# Altium schematic symbol library Jason_SCH Library.SchLib: 27 symbols
Pins are listed as number, name and electrical type; pins without a type are passive.

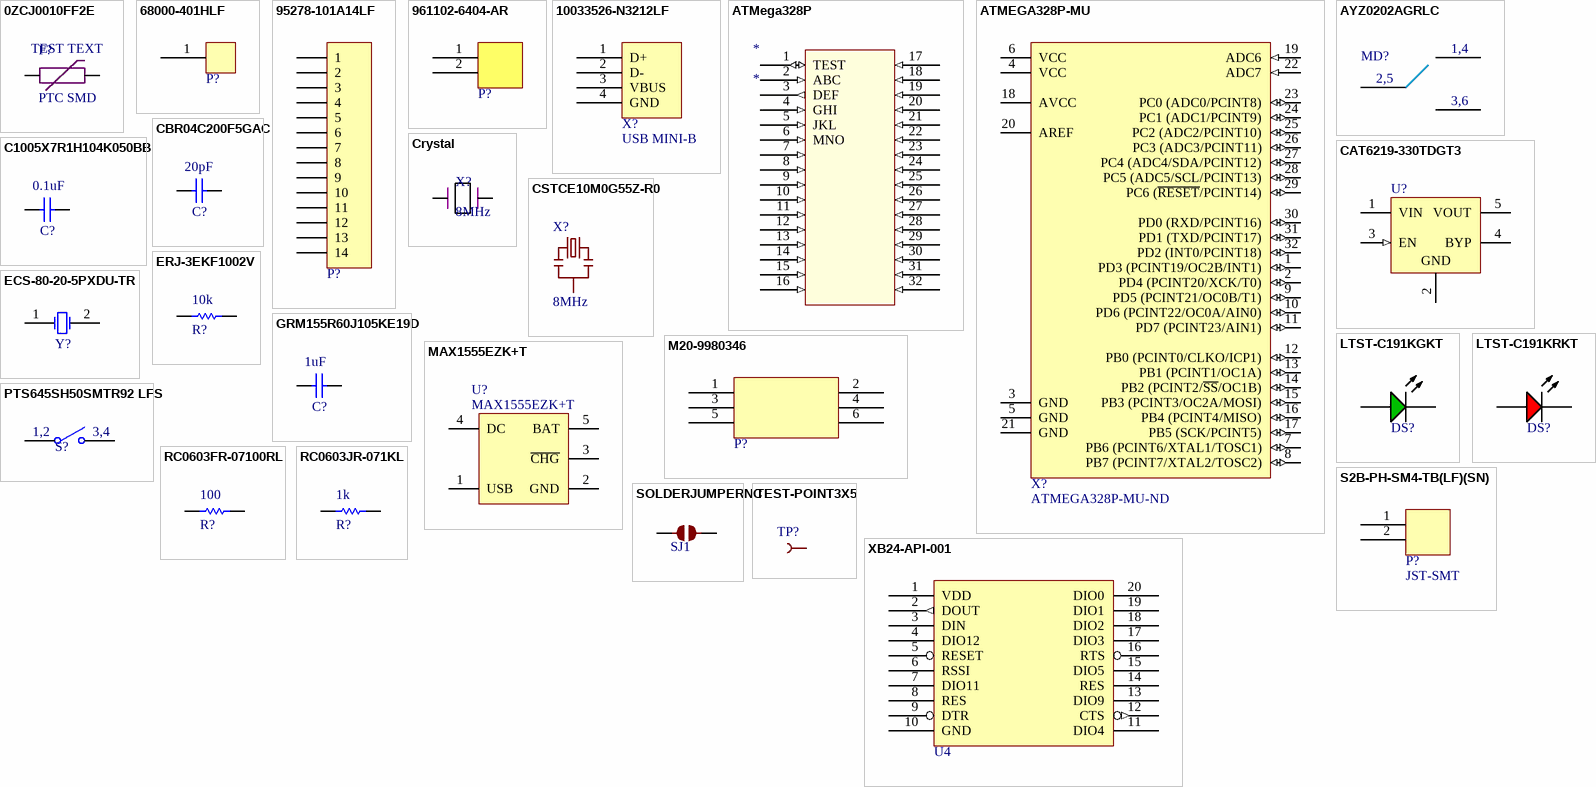
[diagram p0: symbols 0ZCJ0010FF2E to XB24-API-001]

## 0ZCJ0010FF2E
designator F?, comment PTC SMD
PTC RESTTBLE 0.10A 60V CHIP 1206; Manufacturer: Bel Fuse Inc.; Manufacturer Part Number: 0ZCJ0010FF2E; Current - Max: 10A; Current - Hold (Ih) (Max): 100mA; Current - Trip (It): 250mA; R Min/Max: 1.600 ~ 15.00 Ohm; Time to Trip: 1s; Supplier 1: Digi-Key; Supplier Part Number 1: 507-1794-1-ND; RoHS: RoHS Compliant; Category: Circuit Protection; Stock 1: 174384; Pricing 1: 1=0.17, 10=0.15, 25=0.1388, 100=0.1246, 250=0.11104, 500=0.0925, 1000=0.08766 (CAD); Packaging: Cut Tape (CT); Voltage - Max: 60V; Package / Case: 1206 (3216 Metric), Concave; ComponentLink1URL: http://www.belfuse.com/pdfs/0ZCJ.pdf; ComponentLink1Description: http://www.belfuse.com/pdfs/0ZCJ.pdf
footprint PTC-1206
pins: 1, 2
text: TEST TEXT

## 68000-401HLF
designator P?  (value not drawn)
BERGSTIK II .100" SR STRAIGHT HEADER; Manufacturer: FCI; Manufacturer Part Number: 68000-401HLF; Connector Type: Header, Unshrouded; Number of Positions: 1; Number of Positions Loaded: All; Supplier 1: Digi-Key; Supplier Part Number 1: 609-3466-ND; RoHS: RoHS Compliant; Category: Connectors, Interconnects; Stock 1: 11541; Pricing 1: 1=0.14, 10=0.126, 25=0.094, 50=0.0806, 100=0.0779, 250=0.06712, 500=0.06444, 1000=0.05638, 2500=0.05101 (CAD); Packaging: Bulk; Contact Type: Male Pin; Pitch: -; Number of Rows: 1; Row Spacing: -; Contact Mating Length: 0.230" (5.84mm); Mounting Type: Through Hole; Termination: Solder; Fastening Type: -; Features: -; Contact Finish: Tin; Contact Finish Thickness: 100µin (2.54µm); Color: Black; ComponentLink1URL: http://portal.fciconnect.com/Comergent//fci/drawing/68000.pdf; ComponentLink1Description: http://portal.fciconnect.com/Comergent//fci/drawing/68000.pdf
footprint 1X01
pins: 1

## 95278-101A14LF
designator P?
BERGSTIK Header 14POS .100" DR SMT; Manufacturer: FCI; Manufacturer Part Number: 95278-101A14LF; Connector Type: Header, Unshrouded; Number of Positions: 14; Number of Positions Loaded: All; Pitch: 0.100" (2.54mm); Supplier 1: Digi-Key; Supplier Part Number 1: 609-3485-1-ND; RoHS: RoHS Compliant; Category: Connectors, Interconnects; Stock 1: 3673; Pricing 1: 1=1.9, 10=1.677, 25=1.5772, 50=1.5116, 100=1.446 (CAD); Packaging: Cut Tape (CT); Contact Type: Male Pin; Number of Rows: 2; Row Spacing: 0.100" (2.54mm); Contact Mating Length: 0.232" (5.90mm); Mounting Type: Surface Mount; Termination: Solder; Fastening Type: -; Features: -; Contact Finish: Gold, GXT™; Contact Finish Thickness: 30µin (0.76µm); Color: Black; ComponentLink1URL: http://portal.fciconnect.com/Comergent//fci/drawing/95278.pdf; ComponentLink1Description: http://portal.fciconnect.com/Comergent//fci/drawing/95278.pdf
footprint 1X14
pins: 1, 2, 3, 4, 5, 6, 7, 8, 9, 10, 11, 12, 13, 14

## 961102-6404-AR
designator P?  (value not drawn)
CONN HEADER VERT SGL 2POS GOLD; Manufacturer: 3M; Manufacturer Part Number: 961102-6404-AR; Connector Type: Header, Unshrouded; Number of Positions: 2; Number of Positions Loaded: All; Pitch: 0.100" (2.54mm); Supplier 1: Digi-Key; Supplier Part Number 1: 3M9447-ND; RoHS: RoHS Compliant; Category: Connectors, Interconnects; Stock 1: 16484; Pricing 1: 1=0.22, 10=0.21, 25=0.1788, 50=0.1566, 100=0.1454, 250=0.12864, 500=0.12304, 1000=0.10068, 2500=0.09229 (CAD); Packaging: Bulk; Contact Type: Male Pin; Number of Rows: 1; Row Spacing: -; Contact Mating Length: 0.217" (5.50mm); Mounting Type: Through Hole; Termination: Solder; Fastening Type: -; Features: -; Contact Finish: Gold; Contact Finish Thickness: Flash; Color: Black; ComponentLink1URL: http://multimedia.3m.com/mws/mediawebserver?66666UuZjcFSLXTtNxTElX&VEVuQEcuZgVs6EVs6E666666--; ComponentLink1Description: http://multimedia.3m.com/mws/mediawebserver?66666UuZjcFSLXTtNxTElX&VEVuQEcuZgVs6EVs6E666666--
footprint 1X02
pins: 1, 2

## 10033526-N3212LF
designator X?, comment USB MINI-B
CONN MINI USB RCPT RA TYPE B SMD; Manufacturer: FCI; Manufacturer Part Number: 10033526-N3212LF; Connector Type: USB - mini B; Number of Contacts: 5; Gender: Receptacle; Supplier 1: Digi-Key; Supplier Part Number 1: 609-4700-1-ND; RoHS: RoHS Compliant; Category: Connectors, Interconnects; Stock 1: 15539; Pricing 1: 1=0.99, 10=0.928, 25=0.836, 50=0.743, 100=0.7121, 250=0.6502 (CAD); Packaging: Cut Tape (CT); Specifications: -; Mounting Type: Surface Mount, Right Angle, Horizontal; Features: Board Guide, Solder Retention; Ingress Protection: -; ComponentLink1URL: http://portal.fciconnect.com/Comergent//fci/drawing/10033526.pdf; ComponentLink1Description: http://portal.fciconnect.com/Comergent//fci/drawing/10033526.pdf
footprint USB-MINIB
pins: 1 D+, 2 D-, 3 VBUS, 4 GND

## ATMega328P
designator *
footprint TQFP80P900X900X120_HS-33N (TQFP, 32-Leads, Body 7.00x7.00mm, Pitch 0.80mm, Thermal Pad 0.00x0.00mm, IPC Medium Density)
pins: 1 TEST (io), 2 ABC (in), 3 DEF (out), 4 GHI (in), 5 JKL (in), 6 MNO (in), 7 (in), 8 (in), 9 (in), 10 (in), 11 (in), 12 (in), 13 (in), 14 (in), 15 (in), 16 (in), 17 (in), 18 (in), 19 (in), 20 (in), 21 (in), 22 (in), 23 (in), 24 (in), 25 (in), 26 (in), 27 (in), 28 (in), 29 (in), 30 (in), 31 (in), 32 (in)

## ATMEGA328P-MU
designator X?  Supplier Part Number 1: ATMEGA328P-MU-ND
IC MCU 8BIT 32KB FLASH 32QFN; Manufacturer: Atmel; Manufacturer Part Number: ATMEGA328P-MU; Core Processor: AVR; Core Size: 8-Bit; Speed: 20MHz; Connectivity: I²C, SPI, UART/USART; Peripherals: Brown-out Detect/Reset, POR, PWM, WDT; Number of I/O: 23; Program Memory Size: 32KB (16K x 16); EEPROM Size: 1K x 8; RAM Size: 2K x 8; Voltage - Supply (Vcc/Vdd): 1.8 V ~ 5.5 V; Data Converters: A/D 8x10b; Oscillator Type: Internal; Supplier 1: Digi-Key; RoHS: RoHS Compliant; Category: Integrated Circuits (ICs); Stock 1: 70195; Pricing 1: 1=5.01, 10=4.465, 100=3.6608, 250=3.30364, 500=2.96432, 1000=2.50003 (CAD); Packaging: Tray; Program Memory Type: FLASH; Operating Temperature: -40°C ~ 85°C; Package / Case: 32-VFQFN Exposed Pad; Supplier Device Package: 32-VQFN (5x5); ComponentLink1URL: http://www.atmel.com/images/atmel-8271-8-bit-avr-microcontroller-atmega48a-48pa-88a-88pa-168a-168pa-328-328p_datasheet_summary.pdf; ComponentLink1Description: http://www.atmel.com/images/atmel-8271-8-bit-avr-microcontroller-atmega48a-48pa-88a-88pa-168a-168pa-328-328p_datasheet_summary.pdf
footprint 32A_N (Thin QFP, 32-Leads, Body 7x7mm, Pitch 0.8mm, IPC Medium Density)
pins: 1 PD3 (PCINT19/OC2B/INT1) (io), 2 PD4 (PCINT20/XCK/T0) (io), 3 GND (power), 4 VCC (power), 5 GND (power), 6 VCC (power), 7 PB6 (PCINT6/XTAL1/TOSC1) (io), 8 PB7 (PCINT7/XTAL2/TOSC2) (io), 9 PD5 (PCINT21/OC0B/T1) (io), 10 PD6 (PCINT22/OC0A/AIN0) (io), 11 PD7 (PCINT23/AIN1) (io), 12 PB0 (PCINT0/CLKO/ICP1) (io), 13 PB1 (PCINT1/OC1A) (io), 14 PB2 (PCINT2/~{SS}/OC1B) (io), 15 PB3 (PCINT3/OC2A/MOSI) (io), 16 PB4 (PCINT4/MISO) (io), 17 PB5 (SCK/PCINT5) (io), 18 AVCC (power), 19 ADC6 (in), 20 AREF, 21 GND (power), 22 ADC7 (in), 23 PC0 (ADC0/PCINT8) (io), 24 PC1 (ADC1/PCINT9) (io), 25 PC2 (ADC2/PCINT10) (io), 26 PC3 (ADC3/PCINT11) (io), 27 PC4 (ADC4/SDA/PCINT12) (io), 28 PC5 (ADC5/SCL/PCINT13) (io), 29 PC6 (~{RESET}/PCINT14) (io), 30 PD0 (RXD/PCINT16) (io), 31 PD1 (TXD/PCINT17) (io), 32 PD2 (INT0/PCINT18) (io)

## AYZ0202AGRLC
designator MD?
SWITCH SLIDE DPDT 100MA 12V; Manufacturer: C&K Components; Manufacturer Part Number: AYZ0202AGRLC; Contact Timing: Not Specified; Switch Function: On-On; Current Rating: 100mA (DC); Actuator Type: Standard; Actuator Length: 1.00mm; Actuator Material: Polyamide (PA46), Nylon 4/6, Glass Filled; Mechanical Life: 10,000 Cycles; Supplier 1: Digi-Key; Supplier Part Number 1: 401-2013-1-ND; RoHS: RoHS Compliant; Category: Switches; Stock 1: 23014; Pricing 1: 1=1.86, 10=1.779, 25=1.7424, 50=1.5568, 100=1.4827, 250=1.44564, 500=1.22326, 1000=1.18619 (CAD); Packaging: Cut Tape (CT); Circuit: DPDT; Voltage Rating - AC: -; Voltage Rating - DC: 12V; Contact Material: Copper Alloy; Contact Finish: Silver; Mounting Type: Surface Mount; Termination Style: Gull Wing; Features: -; Switch Travel: -; Operating Temperature: -10°C ~ 60°C; Electrical Life: -; Operating Force: -; ComponentLink1URL: http://www.ck-components.com/index.php?module=media&action=Display&cmpref=14395&lang=en&width=&height=&format=&alt=; ComponentLink1Description: http://www.ck-components.com/index.php?module=media&action=Display&cmpref=14395&lang=en&width=&height=&format=&alt=
footprint DPDT SMD
pins: 1, 2, 3, 4, 5, 6
text: 1,4; 2,5; 3,6

## C1005X7R1H104K050BB
designator C?  value 0.1uF
CAP CER 0.1UF 50V 10% X7R 0402; Manufacturer: TDK Corporation; Manufacturer Part Number: C1005X7R1H104K050BB; Capacitance: 0.1µF; Supplier 1: Digi-Key; RoHS: RoHS Compliant; Category: Capacitors; Stock 1: 7100869; Pricing 1: 1=0.21, 10=0.14, 100=0.0664, 250=0.05592, 500=0.04684, 1000=0.03845, 5000=0.03251 (CAD); Packaging: Cut Tape (CT); Tolerance: ±10%; Voltage - Rated: 50V; Temperature Coefficient: X7R; Mounting Type: Surface Mount, MLCC; Operating Temperature: -55°C ~ 125°C; Applications: General Purpose; Ratings: -; Package / Case: 0402 (1005 Metric); Size / Dimension: 0.039" L x 0.020" W (1.00mm x 0.50mm); Height - Seated (Max): -; Thickness (Max): 0.022" (0.55mm); Lead Spacing: -; Features: -; Lead Style: -; ComponentLink1URL: http://product.tdk.com/en/catalog/datasheets/mlcc_commercial_general_en.pdf; ComponentLink1Description: http://product.tdk.com/en/catalog/datasheets/mlcc_commercial_general_en.pdf; Supplier Part Number 1: 445-5932-1-ND
footprint 0402 (Chip Capacitor, Body 1.0x0.5mm, IPC High Density)
pins: 1, 2

## CAT6219-330TDGT3
designator U?  (value not drawn)
IC REG LDO 3.3V 0.5A TSOT23-5; Manufacturer: ON Semiconductor; Regulator Topology: Positive Fixed; Current - Output: 500mA; Voltage - Dropout (Typical): 0.3V @ 500mA; Number of Regulators: 1; Voltage - Input: Up to 5.5V; Supplier 1: Digi-Key; Supplier Part Number 1: CAT6219-330TDGT3CT-ND; Manufacturer Part Number: CAT6219-330TDGT3; RoHS: RoHS Compliant; Category: Integrated Circuits (ICs); Stock 1: 4724; Pricing 1: 1=1.36, 10=1.204, 25=1.0872, 100=0.9514, 250=0.83436, 500=0.73996, 1000=0.58518 (CAD); Packaging: Cut Tape (CT); Voltage - Output: 3.3V; Current - Limit (Min): -; Operating Temperature: -40°C ~ 125°C; Mounting Type: Surface Mount; Package / Case: SOT-23-5 Thin, TSOT-23-5; Supplier Device Package: TSOT-23-5; ComponentLink1URL: http://www.onsemi.com/pub_link/Collateral/CAT6219-D.PDF; ComponentLink1Description: http://www.onsemi.com/pub_link/Collateral/CAT6219-D.PDF
footprint SOT23-5 (SOT23, 5-Leads, Body 3x1.65mm, Pitch 0.95mm, IPC Medium Density)
pins: 1 VIN (power) "Supply voltage input.", 2 GND (power) "Ground reference.", 3 EN (in) "Enable input (active high); a 2.5 M pull-down  resistor is provided.", 4 BYP "Optional bypass capacitor connection for noise  reduction and PSRR enhancing.", 5 VOUT (power) "LDO Output Voltage."

## CBR04C200F5GAC
designator C?  value 20pF
CAP CER 20PF 50V 1% NP0 0402; Manufacturer: Kemet; Manufacturer Part Number: CBR04C200F5GAC; Temperature Coefficient: C0G, NP0; Supplier 1: Digi-Key; Supplier Part Number 1: 399-8786-1-ND; RoHS: RoHS Compliant; Category: Capacitors; Stock 1: 23000; Pricing 1: 1=0.43, 10=0.296, 50=0.1974, 100=0.1678, 250=0.13328, 500=0.11846, 1000=0.10365, 2500=0.09872, 5000=0.09132 (CAD); Packaging: Cut Tape (CT); Capacitance: 20pF; Tolerance: ±1%; Voltage - Rated: 50V; Mounting Type: Surface Mount, MLCC; Operating Temperature: -55°C ~ 125°C; Applications: RF, Microwave, High Frequency; Ratings: -; Package / Case: 0402 (1005 Metric); Size / Dimension: 0.039" L x 0.020" W (1.00mm x 0.50mm); Height - Seated (Max): -; Thickness (Max): 0.022" (0.55mm); Lead Spacing: -; Features: High Q, Low Loss; Lead Style: -; ComponentLink1URL: http://www.kemet.com/Lists/ProductCatalog/Attachments/490/KEM_C1030_CBR_SMD.pdf; ComponentLink1Description: http://www.kemet.com/Lists/ProductCatalog/Attachments/490/KEM_C1030_CBR_SMD.pdf
footprint 0402 (Chip Capacitor, Body 1.0x0.5mm, IPC High Density)
pins: 1, 2

## Crystal
designator X?, comment 8MHz
8MHz Crystal
footprint Crystal_SMD
pins: 1, 2

## CSTCE10M0G55Z-R0
designator X?, comment 8MHz
CER RESONATOR 10MHZ SMD; Manufacturer: Murata Electronics North America; Manufacturer Part Number: CSTCE10M0G55Z-R0; Frequency Stability: ±0.2%; Frequency Tolerance: ±0.5%; Capacitance: 33pF; Supplier 1: Digi-Key; Supplier Part Number 1: 490-4715-1-ND; RoHS: RoHS Compliant; Category: Crystals and Oscillators; Stock 1: 14995; Pricing 1: 1=0.69, 10=0.573, 50=0.5166, 100=0.4596, 500=0.43548, 1000=0.36763 (CAD); Packaging: Cut Tape (CT); Frequency: 10MHz; Type: Ceramic; Features: Built in Capacitor; Impedance: -; Operating Temperature: -40°C ~ 125°C; Mounting Type: Surface Mount; Package / Case: 3-SMD, Non-Standard; Size / Dimension: 0.126" L x 0.051" W (3.20mm x 1.30mm); Height: 0.031" (0.80mm); ComponentLink1URL: http://www.murata.com/~/media/webrenewal/support/library/catalog/products/timingdevice/ceralock/p16e.ashx; ComponentLink1Description: http://www.murata.com/~/media/webrenewal/support/library/catalog/products/timingdevice/ceralock/p16e.ashx
footprint RESONATOR-SMD
pins: 1, 2, 3

## ECS-80-20-5PXDU-TR
designator Y?  (value not drawn)
CRYSTAL 8.0000MHZ 20PF SMD; Manufacturer: ECS Inc.; Frequency: 8MHz; Frequency Stability: ±100ppm; Frequency Tolerance: ±30ppm; ESR (Equivalent Series Resistance): 60 Ohm; Operating Mode: Fundamental; Supplier 1: Digi-Key; Supplier Part Number 1: XC1526CT-ND; Manufacturer Part Number: ECS-80-20-5PXDU-TR; RoHS: RoHS Compliant; Category: Crystals and Oscillators; Stock 1: 14211; Pricing 1: 1=2.17, 10=1.888, 50=1.6552, 100=1.3066, 500=1.10334 (CAD); Packaging: Cut Tape (CT); Type: MHz Crystal; Load Capacitance: 20pF; Operating Temperature: -55°C ~ 125°C; Ratings: -; Mounting Type: Surface Mount; Package / Case: HC49/US; Size / Dimension: 0.449" L x 0.189" W (11.40mm x 4.80mm); Height: 0.169" (4.30mm); ComponentLink1URL: http://www.ecsxtal.com/store/pdf/CSM_7X_DU.pdf; ComponentLink1Description: http://www.ecsxtal.com/store/pdf/CSM_7X_DU.pdf
footprint ABRA-ABLS2-2_V (SMD, 2-Leads, Body 11.4x4.7mm, Height 3.3mm)
pins: 1 OSC1, 2 OSC2

## ERJ-3EKF1002V
designator R?  value 10k
RES SMD 10K OHM 1% 1/10W 0603; Manufacturer: Panasonic Electronic Components; Manufacturer Part Number: ERJ-3EKF1002V; Power (Watts): 0.1W, 1/10W; Temperature Coefficient: ±100ppm/°C; Supplier 1: Digi-Key; RoHS: RoHS Compliant; Category: Resistors; Stock 1: 5981773; Pricing 1: 1=0.15, 50=0.017, 100=0.0125, 250=0.0096, 500=0.00766, 1000=0.00564 (CAD); Packaging: Cut Tape (CT); Resistance (Ohms): 10k; Tolerance: ±1%; Composition: Thick Film; Features: Automotive AEC-Q200; Operating Temperature: -55°C ~ 155°C; Package / Case: 0603 (1608 Metric); Supplier Device Package: 0603; Size / Dimension: 0.063" L x 0.031" W (1.60mm x 0.80mm); Height: 0.022" (0.55mm); Number of Terminations: 2; ComponentLink1URL: http://industrial.panasonic.com/www-cgi/jvcr13pz.cgi?E+PZ+3+AOA0002+ERJ3EKF1002V+7+WW; ComponentLink1Description: http://industrial.panasonic.com/www-cgi/jvcr13pz.cgi?E+PZ+3+AOA0002+ERJ3EKF1002V+7+WW; Supplier Part Number 1: P10.0KHCT-ND
footprint J1-0603 (Chip Resistor, Body 1.6x0.8mm, IPC High Density)
pins: 1, 2

## GRM155R60J105KE19D
designator C?  value 1uF
CAP CER 1UF 6.3V 10% X5R 0402; Manufacturer: Murata Electronics North America; Manufacturer Part Number: GRM155R60J105KE19D; Capacitance: 1µF; Supplier 1: Digi-Key; Supplier Part Number 1: 490-1320-1-ND; RoHS: RoHS Compliant; Category: Capacitors; Stock 1: 7236741; Pricing 1: 1=0.14, 10=0.049, 50=0.0262, 100=0.0224, 250=0.01824, 500=0.0156, 1000=0.01217, 5000=0.01014 (CAD); Packaging: Cut Tape (CT); Tolerance: ±10%; Voltage - Rated: 6.3V; Temperature Coefficient: X5R; Mounting Type: Surface Mount, MLCC; Operating Temperature: -55°C ~ 85°C; Applications: General Purpose; Ratings: -; Package / Case: 0402 (1005 Metric); Size / Dimension: 0.039" L x 0.020" W (1.00mm x 0.50mm); Height - Seated (Max): -; Thickness (Max): 0.022" (0.55mm); Lead Spacing: -; Features: -; Lead Style: -; ComponentLink1URL: http://www.murata.com/~/media/webrenewal/support/library/catalog/products/capacitor/mlcc/c02e.ashx; ComponentLink1Description: http://www.murata.com/~/media/webrenewal/support/library/catalog/products/capacitor/mlcc/c02e.ashx
footprint 0402 (Chip Capacitor, Body 1.0x0.5mm, IPC High Density)
pins: 1, 2

## LTST-C191KGKT
designator DS?
LED GREEN CLEAR THIN 0603 SMD; Manufacturer: Lite-On Inc.; Manufacturer Part Number: LTST-C191KGKT; Wavelength - Dominant: 571nm; Wavelength - Peak: 574nm; Millicandela Rating: 35mcd; Voltage - Forward (Vf) (Typ): 2V; Current - Test: 20mA; Viewing Angle: 130°; Lens Color: Colorless; Lens Style/Size: Rectangle with Flat Top, 1.10mm x 0.80mm; Supplier 1: Digi-Key; Supplier Part Number 1: 160-1446-6-ND; RoHS: RoHS Compliant; Category: Optoelectronics; Stock 1: 186242; Pricing 1: 1=0.42, 10=0.333, 100=0.1812, 250=0.1208, 500=0.10268, 1000=0.07853, 2500=0.07098 (CAD); Packaging: Digi-Reel®; Color: Green; Lens Transparency: Clear; Package / Case: 0603 (1608 Metric); Supplier Device Package: *; Size / Dimension: 1.60mm L x 0.80mm W; Height (Max): 0.55mm; Mounting Type: Surface Mount; ComponentLink1URL: http://optoelectronics.liteon.com/upload/download/DS22-2000-228/S_110_LTST-C191KGKT.pdf; ComponentLink1Description: http://optoelectronics.liteon.com/upload/download/DS22-2000-228/S_110_LTST-C191KGKT.pdf
footprint KING-LED0603-25-GREEN_V (LED, SMT, Body 1.6 x 0.8 mm, 0.25mm Thickness)
pins: 1 A, 2 K

## LTST-C191KRKT
designator DS?
LED SUPER RED CLR THIN 0603 SMD; Manufacturer: Lite-On Inc.; Manufacturer Part Number: LTST-C191KRKT; Wavelength - Dominant: 631nm; Wavelength - Peak: 639nm; Millicandela Rating: 54mcd; Voltage - Forward (Vf) (Typ): 2V; Current - Test: 20mA; Viewing Angle: 130°; Lens Transparency: Clear; Lens Color: Colorless; Lens Style/Size: Rectangle with Flat Top, 1.10mm x 0.80mm; Supplier 1: Digi-Key; Supplier Part Number 1: 160-1447-1-ND; RoHS: RoHS Compliant; Category: Optoelectronics; Stock 1: 239192; Pricing 1: 1=0.42, 10=0.333, 100=0.1812, 250=0.1208, 500=0.10268, 1000=0.07853, 2500=0.07098 (CAD); Packaging: Cut Tape (CT); Color: Red; Package / Case: 0603 (1608 Metric); Supplier Device Package: *; Size / Dimension: 1.60mm L x 0.80mm W; Height (Max): 0.55mm; Mounting Type: Surface Mount; ComponentLink1URL: http://optoelectronics.liteon.com/upload/download/DS22-2000-223/S_110_LTST-C191KRKT.pdf; ComponentLink1Description: http://optoelectronics.liteon.com/upload/download/DS22-2000-223/S_110_LTST-C191KRKT.pdf
footprint KING-LED0603-25-RED_V (LED, SMT, Body 1.6 x 0.8 mm, 0.25mm Thickness)
pins: 1 A, 2 K

## M20-9980346
designator P?  (value not drawn)
DIL VERTICAL PC TAIL PIN HEADER; Manufacturer: Harwin Inc.; Manufacturer Part Number: M20-9980346; Connector Type: Header, Unshrouded, Breakaway; Number of Positions: 6; Number of Positions Loaded: All; Pitch: 0.100" (2.54mm); Supplier 1: Digi-Key; Supplier Part Number 1: 952-2121-ND; RoHS: RoHS Compliant; Category: Connectors, Interconnects; Stock 1: 14297; Pricing 1: 1=0.32, 10=0.299, 25=0.2552, 50=0.2232, 100=0.2072, 250=0.18336, 500=0.17534, 1000=0.14346, 2500=0.13151 (CAD); Packaging: Bulk; Contact Type: Male Pin; Number of Rows: 2; Row Spacing: 0.100" (2.54mm); Contact Mating Length: 0.240" (6.10mm); Mounting Type: Through Hole; Termination: Solder; Fastening Type: -; Features: -; Contact Finish: Tin; Contact Finish Thickness: -; Color: Black; ComponentLink1URL: http://cdn.harwin.com/pdfs/M20-998.pdf; ComponentLink1Description: http://cdn.harwin.com/pdfs/M20-998.pdf
footprint 2X3
pins: 1, 2, 3, 4, 5, 6

## MAX1555EZK+T
designator U?
IC BATT CHRGR LI+ 1CELL SOT23-5; Manufacturer: Maxim Integrated; Function: Charge Management; Battery Chemistry: Li-Ion, Li-Pol; Voltage - Supply: 3.7 V ~ 7 V; Supplier 1: Digi-Key; Supplier Part Number 1: MAX1555EZK+TCT-ND; Manufacturer Part Number: MAX1555EZK+T; RoHS: RoHS Compliant; Category: Integrated Circuits (ICs); Stock 1: 1085; Pricing 1: 1=2.84, 10=2.675, 25=2.1392, 50=2.0326, 100=1.872, 250=1.77568, 500=1.71148 (CAD); Packaging: Cut Tape (CT); Operating Temperature: -40°C ~ 85°C; Mounting Type: Surface Mount; Package / Case: SOT-23-5 Thin, TSOT-23-5; Supplier Device Package: TSOT-23-5; ComponentLink1URL: http://datasheets.maximintegrated.com/en/ds/MAX1551-MAX1555.pdf; ComponentLink1Description: http://datasheets.maximintegrated.com/en/ds/MAX1551-MAX1555.pdf
footprint SOT23-5 (SOT23, 5-Leads, Body 3x1.65mm, Pitch 0.95mm, IPC Medium Density)
pins: 1 USB (power) "USB Port Charger Supply Input. USB draws up to 100mA to charge the battery. Decouple USB with a 1µF  ceramic capacitor to GND.", 2 GND (power) "Ground", 3 ~{CHG} (hiz) "Active-Low Open-Drain Charge Status Indicator. C\H\G\ pulls low when the battery is charging. C\H\G\ goes to a  high-impedance state, indicating the battery is fully charged, when the charger is in voltage mode and  charge current falls below 50mA. C\H\G\", 4 DC (power) "DC Charger Supply Input for an AC Adapter. DC draws 280mA to charge the battery. Decouple DC with a  1µF ceramic capacitor to GND.", 5 BAT (power) "Battery Connection. Decouple BAT with a 1µF ceramic capacitor to GND."

## PTS645SH50SMTR92 LFS
designator S?
SWITCH TACTILE SPST-NO 0.05A 12V; Manufacturer: C&K Components; Manufacturer Part Number: PTS645SH50SMTR92 LFS; Switch Function: Off-Mom; Contact Rating @ Voltage: 0.05A @ 12VDC; Actuator Type: Standard; Actuator Height off PCB, from Pins: 5.00mm; Actuator Orientation: Top Actuated; Outline: 6.00mm x 6.00mm; Illumination: Non-Illuminated; Operating Force: 200gf; Actuator Material: Polyamide (PA66), Nylon 6/6; Mechanical Life: 100,000 Cycles; Supplier 1: Digi-Key; Supplier Part Number 1: CKN9085CT-ND; RoHS: RoHS Compliant; Category: Switches; Stock 1: 49163; Pricing 1: 1=0.43, 10=0.418, 25=0.404, 50=0.3892, 100=0.3675, 250=0.34592, 500=0.3315 (CAD); Packaging: Cut Tape (CT); Circuit: SPST-NO; Mounting Type: Surface Mount; Termination Style: Gull Wing; Illumination Voltage (Nominal): -; Illumination Type, Color: -; Ingress Protection: -; Features: -; Switch Travel: -; Operating Temperature: -20°C ~ 60°C; ComponentLink1URL: http://www.ck-components.com/14409/pts645_25apr13.pdf/; ComponentLink1Description: http://www.ck-components.com/14409/pts645_25apr13.pdf/
footprint TACTILE SWITCH SMD (Switch, Through-Hole, 4 Leads, Body 8.5x8.5mm, Row Spacing 9.0mm, Pitch 4.5mm)
pins: 1, 2, 3, 4
text: 1,2; 3,4

## RC0603FR-07100RL
designator R?  value 100
RES SMD 100 OHM 1% 1/10W 0603; Manufacturer: Yageo; Manufacturer Part Number: RC0603FR-07100RL; Power (Watts): 0.1W, 1/10W; Temperature Coefficient: ±100ppm/°C; Supplier 1: Digi-Key; RoHS: RoHS Compliant; Category: Resistors; Stock 1: 1476273; Pricing 1: 1=0.15, 10=0.021, 25=0.0148, 100=0.0085, 250=0.00648, 500=0.00518, 1000=0.00383, 2500=0.00332 (CAD); Packaging: Cut Tape (CT); Resistance (Ohms): 100; Tolerance: ±1%; Composition: Thick Film; Features: Moisture Resistant; Operating Temperature: -55°C ~ 155°C; Package / Case: 0603 (1608 Metric); Supplier Device Package: 0603; Size / Dimension: 0.063" L x 0.031" W (1.60mm x 0.80mm); Height: 0.022" (0.55mm); Number of Terminations: 2; ComponentLink1URL: http://www.yageo.com/NewPortal/yageodocoutput?fileName=/pdf/R-Chip/PYu-RC_Group_51_RoHS_L_3.pdf; ComponentLink1Description: http://www.yageo.com/NewPortal/yageodocoutput?fileName=/pdf/R-Chip/PYu-RC_Group_51_RoHS_L_3.pdf; Supplier Part Number 1: 311-100HRCT-ND
footprint J1-0603 (Chip Resistor, Body 1.6x0.8mm, IPC High Density)
pins: 1, 2

## RC0603JR-071KL
designator R?  value 1k
RES SMD 1K OHM 5% 1/10W 0603; Manufacturer: Yageo; Manufacturer Part Number: RC0603JR-071KL; Power (Watts): 0.1W, 1/10W; Temperature Coefficient: ±100ppm/°C; Supplier 1: Digi-Key; Supplier Part Number 1: 311-1.0KGRCT-ND; RoHS: RoHS Compliant; Category: Resistors; Stock 1: 1746734; Pricing 1: 1=0.15, 10=0.016, 25=0.012, 100=0.0066, 250=0.005, 500=0.00402, 1000=0.00295, 2500=0.00256 (CAD); Packaging: Cut Tape (CT); Resistance (Ohms): 1k; Tolerance: ±5%; Composition: Thick Film; Features: Moisture Resistant; Operating Temperature: -55°C ~ 155°C; Package / Case: 0603 (1608 Metric); Supplier Device Package: 0603; Size / Dimension: 0.063" L x 0.031" W (1.60mm x 0.80mm); Height: 0.022" (0.55mm); Number of Terminations: 2; ComponentLink1URL: http://www.yageo.com/NewPortal/yageodocoutput?fileName=/pdf/R-Chip/PYu-RC_Group_51_RoHS_L_3.pdf; ComponentLink1Description: http://www.yageo.com/NewPortal/yageodocoutput?fileName=/pdf/R-Chip/PYu-RC_Group_51_RoHS_L_3.pdf
footprint J1-0603 (Chip Resistor, Body 1.6x0.8mm, IPC High Density)
pins: 1, 2

## S2B-PH-SM4-TB(LF)(SN)
designator P?, comment JST-SMT
CONN HEADER PH SIDE 2POS 2MM SMD; Manufacturer: JST Sales America Inc.; Manufacturer Part Number: S2B-PH-SM4-TB(LF)(SN); Connector Type: Header, Shrouded; Number of Positions: 2; Number of Positions Loaded: All; Pitch: 0.079" (2.00mm); Supplier 1: Digi-Key; Supplier Part Number 1: 455-1749-1-ND; RoHS: RoHS Compliant; Category: Connectors, Interconnects; Stock 1: 199364; Pricing 1: 1=0.78, 10=0.729, 25=0.6556, 50=0.5828, 100=0.5585, 250=0.50996, 500=0.48568 (CAD); Packaging: Cut Tape (CT); Contact Type: Male Pin; Number of Rows: 1; Row Spacing: -; Contact Mating Length: 0.130" (3.30mm); Mounting Type: Surface Mount, Right Angle; Termination: Solder; Fastening Type: Detent Lock; Features: Solder Retention; Contact Finish: Tin; Contact Finish Thickness: -; Color: Natural; ComponentLink1URL: http://www.jst-mfg.com/product/pdf/eng/ePH.pdf; ComponentLink1Description: http://www.jst-mfg.com/product/pdf/eng/ePH.pdf
footprint S2B-PH
pins: 1, 2

## SOLDERJUMPERNC
designator SJ1  (value not drawn)
=SupplierDescription
footprint SJ_2S
pins: 1, 2

## TEST-POINT3X5
designator TP?  (no BOM)
=SupplierDescription
footprint PAD.03X.05
pins: 1

## XB24-API-001
designator U4
MOD XBEE 802.15.4 1MW W/PCB ANT; Manufacturer: Digi International; Manufacturer Part Number: XB24-API-001; Frequency: 2.4GHz; Data Rate (Max): 250kbps; Power - Output: 0dBm; Sensitivity: -92dBm; Voltage - Supply: 2.8 V ~ 3.4 V; Current - Receiving: 50mA; Current - Transmitting: 45mA; Data Interface: PCB, Through Hole; Antenna Connector: On-Board, Trace; Supplier 1: Digi-Key; Supplier Part Number 1: 602-1273-ND; RoHS: RoHS Compliant; Category: RF/IF and RFID; Stock 1: 2317; Pricing 1: 1=26.57 (CAD); Packaging: Bulk; Modulation or Protocol: 802.15.4; Applications: Home/Building Automation, Industrial Control, ZigBee™; Memory Size: -; Operating Temperature: -40°C ~ 85°C; Package / Case: Module; ComponentLink1URL: http://www.digi.com/pdf/ds_xbeemultipointmodules.pdf; ComponentLink1Description: http://www.digi.com/pdf/ds_xbeemultipointmodules.pdf
footprint XBEE-SMD
pins: 1 VDD, 2 DOUT (out), 3 DIN, 4 DIO12, 5 RESET, 6 RSSI, 7 DIO11, 8 RES, 9 DTR, 10 GND, 11 DIO4, 12 CTS (out), 13 DIO9, 14 RES, 15 DIO5, 16 RTS, 17 DIO3, 18 DIO2, 19 DIO1, 20 DIO0